# Altium footprint library diodes.PcbLib: 1 footprints
Each footprint in its own frame and in the unit in brackets; x right, y up, seen from the top. Pads: shape width x height; smd on the part's side, far side on the other; paste and mask are expansions set on the pad; w line width, h text height; cw(c..) or ccw(c..) is an arc to the next point about the centre after c.
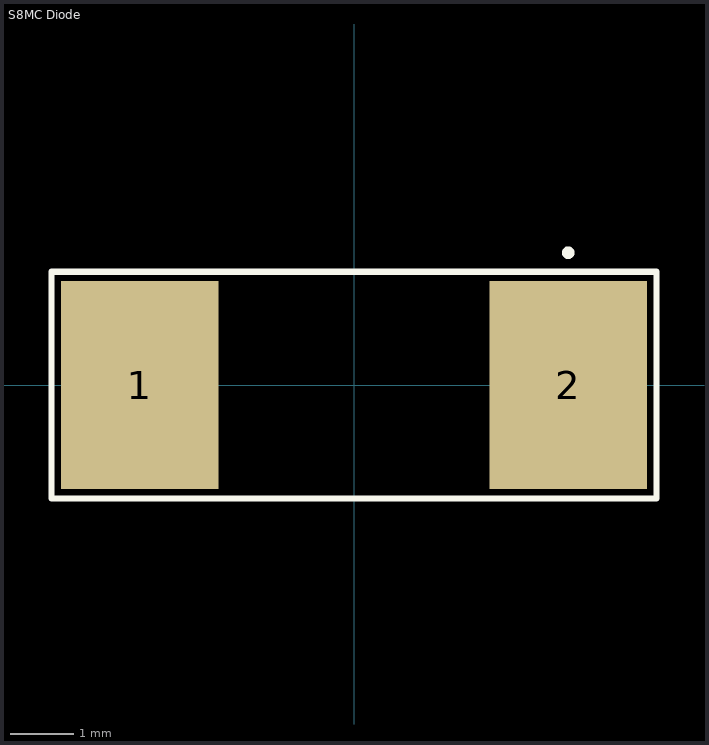
[diagram p0: the footprint, top view; thin cyan lines are the x and y axes]

## S8MC Diode [mm] "S8MC 8A Diode"
height 2.25
pads (2):
  rect 2.5x3.3 smd: 1(-3.4,0) 2(3.4,0)
Top Overlay:
  circle w0.1: c3.4,2.1 r0.05
  lines w0.1: -4.8,-1.8 4.8,-1.8 4.8,1.8 -4.8,1.8 -4.8,-1.8